# Altium schematic symbol library TPS3779_3780.SCHLIB: 1 symbol
Pins are listed as number, name and electrical type; pins without a type are passive.

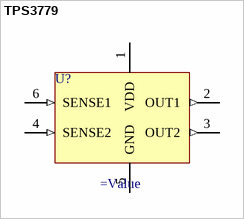
[diagram p0: symbol TPS3779]

## TPS3779
designator U?
pins: 1 VDD (power), 2 OUT1 (out) "The SW pin is the output of the internal power switch. Connect this pin to the inductor, catch diode and boost capacitor.", 3 OUT2 (out) "The BOOST pin is used to provide a drive voltage, higher than the input voltage, to the internal bipolar NPN power switch.", 4 SENSE2 (in), 5 GND, 6 SENSE1 (in)